# Altium schematic symbol library Vote.SchLib: 18 symbols
Pins are listed as number, name and electrical type; pins without a type are passive.

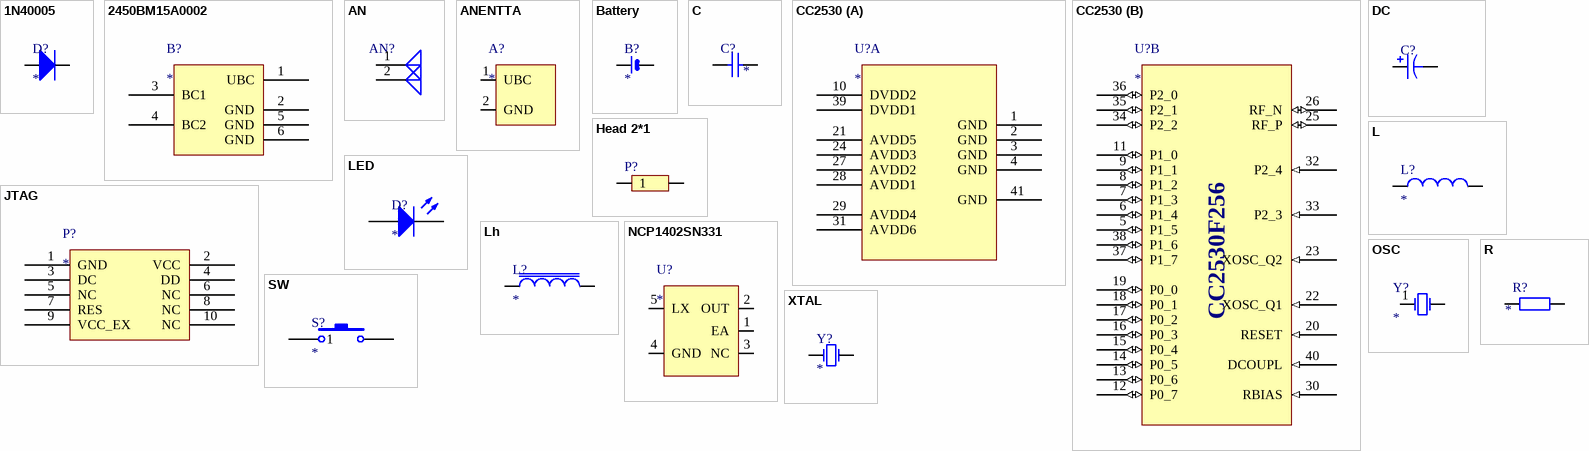
[diagram p0: symbols 1N40005 to XTAL]

## 1N40005
designator D?
footprint 0805D
pins: 1 A, 2 K

## 2450BM15A0002
designator B?
footprint SSOP 6
pins: 1 UBC, 2 GND, 3 BC1, 4 BC2, 5 GND, 6 GND

## AN
designator AN?  (value not drawn)
pins: 1 0, 2 1

## ANENTTA
designator A?
footprint AN
pins: 1 UBC, 2 GND

## Battery
designator B?
footprint Battery (60mm*18mm)
pins: 1 OSC1, 2 OSC2

## C
designator C?
Value: *
footprint 0603C (C)
pins: 1, 2

## CC2530
designator U?
footprint QPN 40
part A pins: 1 GND, 2 GND, 3 GND, 4 GND, 10 DVDD2, 21 AVDD5, 24 AVDD3, 27 AVDD2, 28 AVDD1, 29 AVDD4, 31 AVDD6, 39 DVDD1, 41 GND
part B pins: 5 P1_5 (io), 6 P1_4 (io), 7 P1_3 (io), 8 P1_2 (io), 9 P1_1 (io), 11 P1_0 (io), 12 P0_7 (io), 13 P0_6 (io), 14 P0_5 (io), 15 P0_4 (io), 16 P0_3 (io), 17 P0_2 (io), 18 P0_1 (io), 19 P0_0 (io), 20 RESET (in), 22 XOSC_Q1 (in), 23 XOSC_Q2 (in), 25 RF_P (io), 26 RF_N (io), 30 RBIAS (in), 32 P2_4 (in), 33 P2_3 (in), 34 P2_2 (io), 35 P2_1 (io), 36 P2_0 (io), 37 P1_7 (io), 38 P1_6 (io), 40 DCOUPL (in)
part B text: CC2530F256

## DC
designator C?  (value not drawn)
footprint 1210C
pins: 1, 2

## Head 2*1
designator P?  (value not drawn)
footprint HEAD 2*1
pins: 1, 2

## JTAG
designator P?
footprint HEAD 2*5
pins: 1 GND, 2 VCC, 3 DC, 4 DD, 5 NC, 6 NC, 7 RES, 8 NC, 9 VCC_EX, 10 NC

## L
designator L?
footprint 0603R (R)
pins: 1, 2

## LED
designator D?
footprint 0603LED
pins: 1 A, 2 K

## Lh
designator L?
footprint E(1812)
pins: 1, 2

## NCP1402SN331
designator U?
footprint SOT23-5
pins: 1 EA, 2 OUT, 3 NC, 4 GND, 5 LX

## OSC
designator Y?
footprint OSC
pins: 1 NC, 3 OUT

## R
designator R?
Value: *
footprint 0603R (R)
pins: 1, 2

## SW
designator S?
footprint BUTTON
pins: 1, 2

## XTAL
designator Y?
footprint 1812
pins: 1 OSC1, 2 OSC2